# Altium footprint library SF16_POWER.PcbLib: 34 footprints (part 3 of 3)
Each footprint in its own frame and in the unit in brackets; x right, y up, seen from the top. Pads: shape width x height; smd on the part's side, far side on the other; paste and mask are expansions set on the pad; w line width, h text height; cw(c..) or ccw(c..) is an arc to the next point about the centre after c.
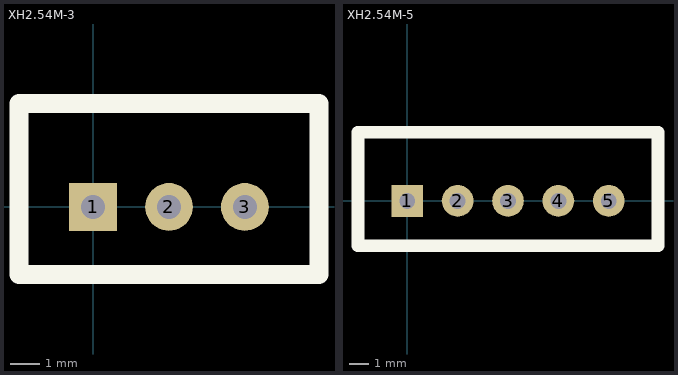
[diagram p2: the footprints below, top view; thin cyan lines are the x and y axes]

## XH2.54M-3 [mm]
pads (3):
  rect 1.6x1.6 hole 0.8: 1(0,0)
  round 1.6 hole 0.8: 2(2.54,0) 3(5.08,0)
Top Overlay:
  lines w0.635: -2.48,-2.26 -2.48,3.46 7.56,3.46 7.56,-2.26 -2.48,-2.26
3D body "XH2.54M-3.STEP": height 6.91, standoff -1.82, extent -2.48,-2.26 7.56,3.48

## XH2.54M-5 [mm]
pads (5):
  rect 1.6x1.6 hole 0.8: 1(0,0)
  round 1.6 hole 0.8: 2(2.54,0) 3(5.08,0) 4(7.62,0) 5(10.16,0)
Top Overlay:
  lines w0.635: -2.48,-2.26 12.64,-2.26 12.64,3.46 -2.48,3.46 -2.48,-2.26
3D body "XH2.54M-5.STEP": height 6.91, standoff -1.82, extent -2.48,-2.26 12.64,3.48